# EAGLE library part SHIFT_REGISTER-PISO (library 000_CustomPartsMaster)
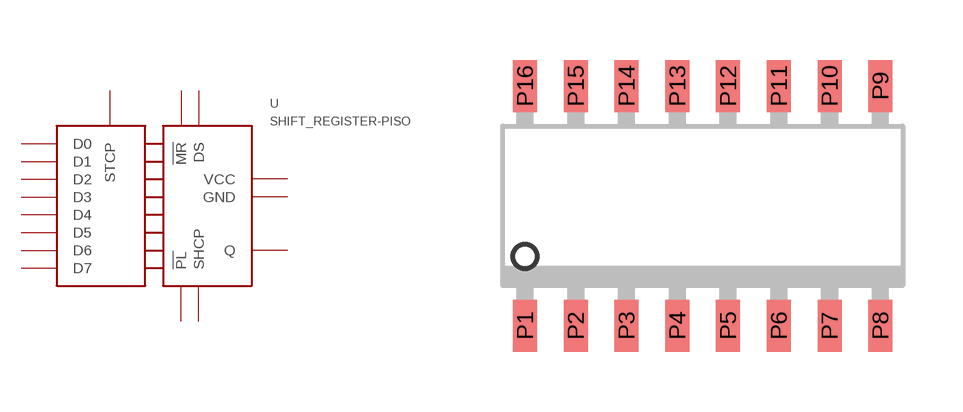
[diagram p16: symbol with the pads of SO16; footprint SO16]

Designator prefix -

## SHIFT_REGISTER-PISOS016  [SO16]
P1  D1
P2  D2
P3  D3
P4  D4
P5  D5
P6  D6
P7  D7
P8  GND
P9  Q
P10  !MR
P11  SHCP
P12  STCP
P13  !PL
P14  DS
P15  D0
P16  VCC

## Footprint SO16 (pad centres in mm)
smd 0.6 x 1.3: P1 -4.445,-3; P2 -3.175,-3; P3 -1.905,-3; P4 -0.635,-3; P5 0.635,-3; P6 1.905,-3; P7 3.175,-3; P8 4.445,-3; P9 4.445,3; P10 3.175,3; P11 1.905,3; P12 0.635,3; P13 -0.635,3; P14 -1.905,3; P15 -3.175,3; P16 -4.445,3